# Altium schematic symbol library MICRF113YM6-TR.SchLib: 2 symbols
Pins are listed as number, name and electrical type; pins without a type are passive.

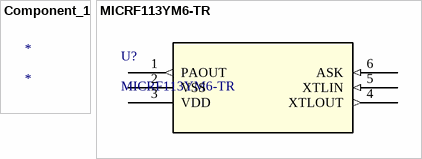
[diagram p0: symbols Component_1 to MICRF113YM6-TR]

## Component_1
designator *

## MICRF113YM6-TR
designator U?
No Description Available; Mfr_Name: Microchip; Copyright: Copyright (C) 2022 Ultra Librarian. All rights reserved.; Manufacturer_Part_Number: MICRF113YM6-TR; Digi-Key_Part_Number_1: 576-3229-1-ND; Digi-Key_Part_Number_2: 576-3229-2-ND; Digi-Key_Part_Number_3: 576-3229-2-NDL; Digi-Key_Part_Number_4: 576-3229-6-ND; RefDes: RefDes; Type: DEV
footprint SOT-23-6_MC_MCH
pins: 1 PAOUT (out), 2 VSS (power), 3 VDD (power), 4 XTLOUT (out), 5 XTLIN (in), 6 ASK (in)